# EAGLE library part 61500814221 (library 615008185221_Eagle_WR-MJ_rev20b)
WR-MJ Modular Jack Horizontal Shielded 8P8C Tab Down KIND PROPERTIES Quality Class:500 Mating cycles General Information Operating Temperature:-40 up to +85 °C Compliance:RoHS Electrical Properties IR1:1.5A Working Voltage: 120 V (AC) Withstanding Voltage:1000V (AC) Contact Resistance:20mΩ RISO:500 MΩ Material Properties Insulator MateriaL:PBT Insulator Flammability Rating:UL94 V-0 Color:Black Contact Material:Copper Alloy Contact Plating:Gold Contact Type:Stamped Shielding Material:Bronze Shielding Plating:Nickel Packaging Properties Packaging:Tray <https://www.we-online.com/catalog/media/o33129v209%20Family_WR-MJ_61500814221.jpg> Details see: https://www.we-online.com/catalog/en/MJ_HORIZONTAL_SHIELDED_8P8C_TAB_DOWN/ Updated by Yingchun,Shan 2020-01-02 2020 (C) Würth Elektronik
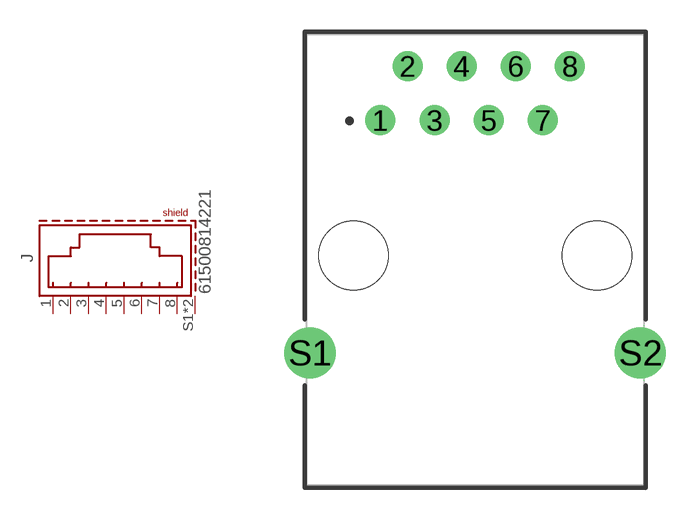
[diagram p43: symbol with the pads of 61500814221; footprint 61500814221]

Designator prefix J

## 61500814221 (DATASHEET-URL: https://www.we-online.com/catalog/datasheet/61500814221.pdf; MOUNT: THT; PART-NUMBER: 61500814221; TYPE: Horizontal; VALUE: 61500814221; XPXC: 8P8C)  [61500814221]
1  8  pas
2  7  pas
3  6  pas
4  5  pas
5  4  pas
6  3  pas
7  2  pas
8  1  pas
S1  SHIELD  pas
S2  SHIELD  pas

## Footprint 61500814221 (pad centres in mm)
WR-MJ Modular Jack Horizontal Shielded 8P8C Tab Down, 8 Pins
drill 0.9: 1 -4.445,6.55; 2 -3.175,9.09; 3 -1.905,6.55; 4 -0.635,9.09; 5 0.635,6.55; 6 1.905,9.09; 7 3.175,6.55; 8 4.445,9.09
drill 1.6: S1 -7.75,-4.37; S2 7.75,-4.37
hole 3.25 at -5.715,0.2
hole 3.25 at 5.715,0.2